# Altium footprint library SnapEDApcb.PcbLib: 1 footprints
Each footprint in its own frame and in the unit in brackets; x right, y up, seen from the top. Pads: shape width x height; smd on the part's side, far side on the other; paste and mask are expansions set on the pad; w line width, h text height; cw(c..) or ccw(c..) is an arc to the next point about the centre after c.
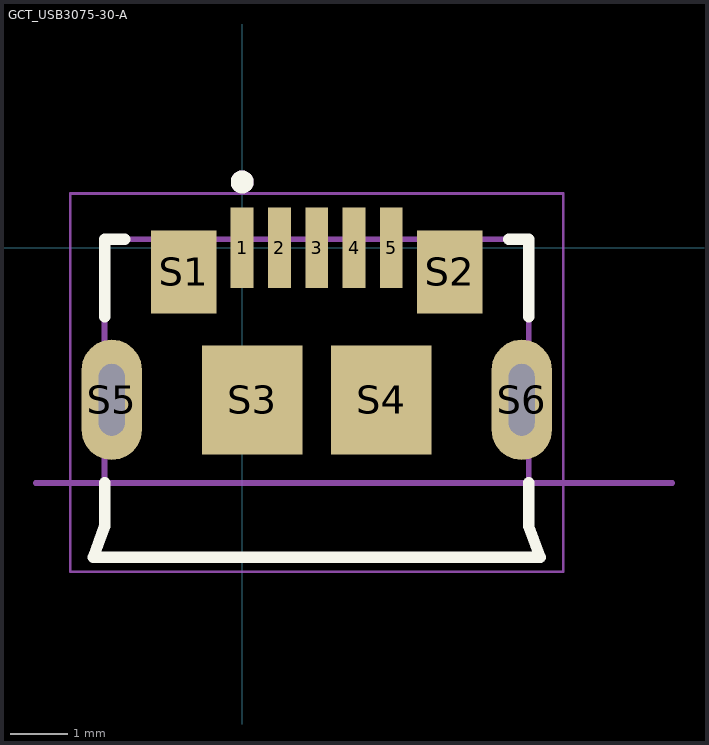
[diagram p0: the footprint, top view; thin cyan lines are the x and y axes]

## GCT_USB3075-30-A [mm]
pads (11):
  rect 0.4x1.4 smd: 1(0,0) 2(0.65,0) 3(1.3,0) 4(1.95,0) 5(2.6,0)
  rect 1.15x1.45 smd: S1(-1.02,-0.42) S2(3.62,-0.42)
  rect 1.75x1.9 smd: S3(0.175,-2.65) S4(2.425,-2.65)
  oval 1.05x2.1 hole 0.45 slot 1.25 at 90 deg: S5(-2.275,-2.65) S6(4.875,-2.65)
Top Overlay:
  circle w0.2: c0,1.15 r0.1
  lines w0.2: -2.4,-4.1 -2.4,-4.86 -2.6,-5.4 5.2,-5.4 5,-4.86 5,-4.1 ; -2.4,-1.2 -2.4,0.15 -2.05,0.15 ; 4.65,0.15 5,0.15 5,-1.2
Mechanical 13:
  circle w0.2: c0,1.15 r0.1
  lines w0.1: -3.6,-4.1 7.5,-4.1 ; -2.6,-5.4 -2.4,-4.86 -2.4,0.15 5,0.15 5,-4.86 5.2,-5.4 -2.6,-5.4
  text "PCB EDGE" at 5.716,-4.055 h0.41
Mechanical 15:
  lines w0.05: -3,-5.65 5.6,-5.65 5.6,0.95 -3,0.95 -3,-5.65